# Altium integrated library NXP Semiconductors Standard MOSFETs.IntLib: 477 symbols (part 12 of 14)
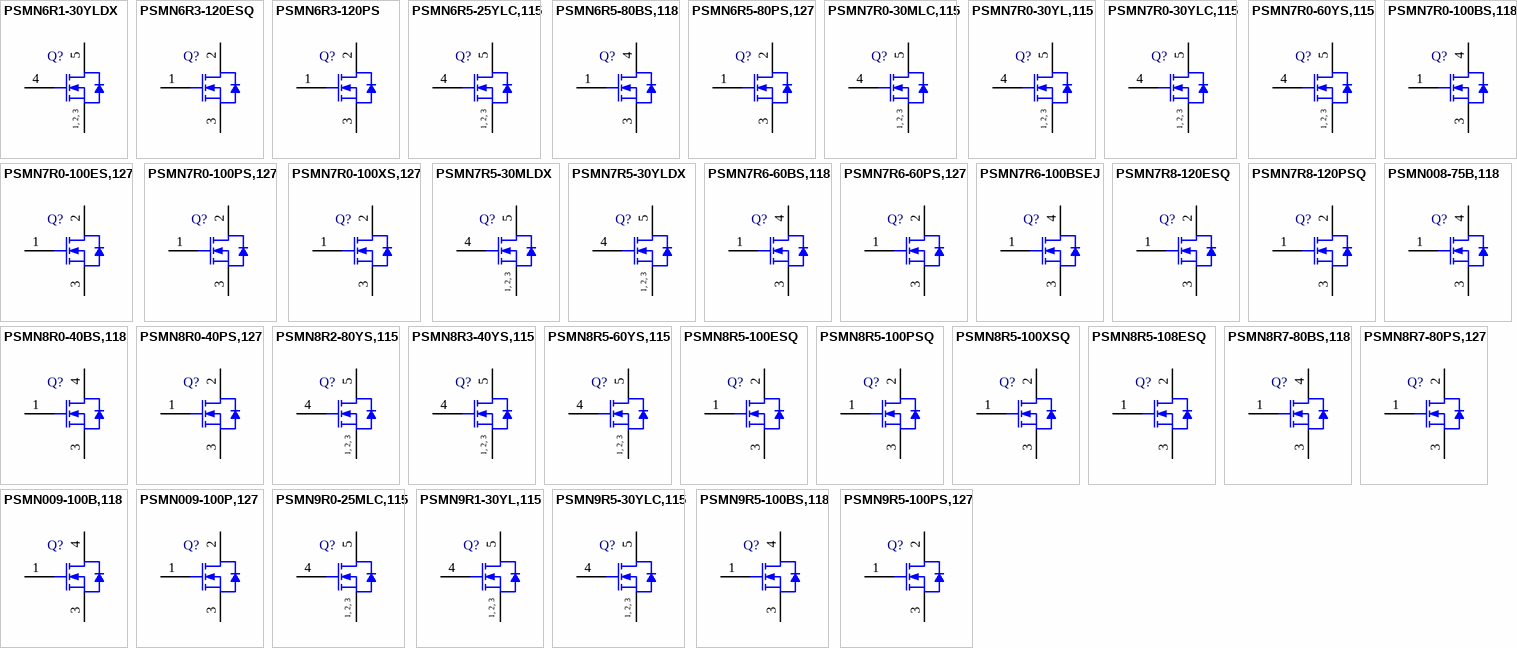
[diagram p23: symbols PSMN6R1-30YLDX to PSMN9R5-100PS,127]

## PSMN7R0-100BS,118
designator Q?
N-Channel Standard Level MOSFET, 100 V, 100 A, 3-Pin SOT404, Tape and Reel; Manufacturer: NXP Semiconductors; PartNumber: PSMN7R0-100BS,118; Channel Type: N; Ciss [typ] (pF): 6686; Coss [typ] (pF): 438; ID [max] (A): 100; Packing: Tape & Reel; Qr [typ] (nC): 167; VGSth [typ] (V): 3; DatasheetVersion: Rev. 2; PackageVersion: 13-02-25, 02/2013; PackageReference: SOT404; PackageDescription: 3-Pin Plastic Single-ended Surface Mounted Package, Body 10 x 9.6 mm, Pitch 2.54 mm; Supplier 1: Digi-Key; Supplier Part Number 1: 568-9705-2-ND; Supplier 2: Digi-Key; Supplier Part Number 2: 568-9705-1-ND; Supplier 3: Digi-Key; Supplier Part Number 3: 568-9705-6-ND; Supplier 4: Mouser; Supplier Part Number 4: 771-PSMN7R0-100BS118; VDS [max] (V): 100; Mounting Technology: Surface Mount; ComponentLink1Description: Manufacturer URL; ComponentLink1URL: http://www.nxp.com/; ComponentLink2Description: Datasheet; ComponentLink2URL: http://www.nxp.com/documents/data_sheet/PSMN7R0-100BS.pdf; ComponentLink3Description: Package Specification; ComponentLink3URL: http://www.nxp.com/documents/outline_drawing/sot404_po.pdf
footprint NXP-SOT404_N (DPAK, 3-Leads, Body 10.3x9.8mm, Pitch 2.54mm, IPC Medium Density)
footprint NXP-SOT404_L (DPAK, 3-Leads, Body 10.3x9.8mm, Pitch 2.54mm, IPC High Density)
footprint NXP-SOT404_M (DPAK, 3-Leads, Body 10.3x9.8mm, Pitch 2.54mm, IPC Low Density)
pins: 1 G "gate", 3 S "source", 4 D "mounting base; connected to drain"

## PSMN7R0-100ES,127
designator Q?
N-Channel Standard Level MOSFET, 100 V, 100 A, 3-Pin SOT226, Rail; Manufacturer: NXP Semiconductors; PartNumber: PSMN7R0-100ES,127; Channel Type: N; Ciss [typ] (pF): 6686; Coss [typ] (pF): 438; ID [max] (A): 100; Qr [typ] (nC): 167; VGSth [typ] (V): 3; DatasheetVersion: Rev. 03; PackageVersion: 09-08-25, 08/2009; PackageReference: SOT226; PackageDescription: 3-Pin Flange Mount, Vertical Straight Lead, Body 10 x 4.3 mm, Pitch 2.54 mm; Supplier 1: Digi-Key; Supplier Part Number 1: 568-7516-5-ND; Supplier 2: Mouser; Supplier Part Number 2: 771-PSMN7R0-100ES127; Packing: Rail; VDS [max] (V): 100; Mounting Technology: Through Hole; Code_JEDEC: TO-262; ComponentLink1Description: Manufacturer URL; ComponentLink1URL: http://www.nxp.com/; ComponentLink2Description: Datasheet; ComponentLink2URL: http://www.nxp.com/documents/data_sheet/PSMN7R0-100ES.pdf; ComponentLink3Description: Package Specification; ComponentLink3URL: http://www.nxp.com/documents/outline_drawing/sot226_po.pdf
footprint NXP-SOT226 (FM, 3-Leads, Body 10.3x4.5mm, Pitch 2.54mm)
pins: 1 G "gate", 2 D "drain", 3 S "source"

## PSMN7R0-100PS,127
designator Q?
N-Channel Standard Level MOSFET, 100 V, 100 A, 3-Pin SOT78, Tube; Manufacturer: NXP Semiconductors; PartNumber: PSMN7R0-100PS,127; Channel Type: N; Ciss [typ] (pF): 6686; Coss [typ] (pF): 438; ID [max] (A): 100; Qr [typ] (nC): 167; VGSth [typ] (V): 3; PackageVersion: 08-06-13, 06/2008; PackageReference: SOT78; PackageDescription: 3-Pin Flange Mount, Vertical Straight Lead, Body 10 x 4.4 mm, Pitch 2.54 mm; Supplier 1: Digi-Key; Supplier Part Number 1: 568-4971-5-ND; Supplier 2: Mouser; Supplier Part Number 2: 771-PSMN7R0-100PS127; Packing: Tube; VDS [max] (V): 100; Mounting Technology: Through Hole; Code_JEITA: SC-46; Code_JEDEC: 3-lead TO-220AB; ComponentLink1Description: Manufacturer URL; ComponentLink1URL: http://www.nxp.com/; ComponentLink2Description: Datasheet; ComponentLink2URL: http://www.nxp.com/documents/data_sheet/PSMN7R0-100PS.pdf; ComponentLink3Description: Package Specification; ComponentLink3URL: http://www.nxp.com/documents/outline_drawing/sot078_po.pdf
footprint NXP-SOT78 (FM, 3-Leads, Body 10.3x4.7mm, Pitch 2.54mm)
pins: 1 G "gate", 2 D "drain", 3 S "source"

## PSMN7R0-100XS,127
designator Q?
N-Channel Standard Level MOSFET, 100 V, 55 A, 3-Pin SOT186A, Rail; Manufacturer: NXP Semiconductors; PartNumber: PSMN7R0-100XS,127; Channel Type: N; Ciss [typ] (pF): 6686; Coss [typ] (pF): 438; ID [max] (A): 55; Qr [typ] (nC): 167; VDS [max] (V): 100; VGSth [typ] (V): 3; DatasheetVersion: Rev. 3; PackageVersion: 06-02-14, 02/2006; PackageReference: SOT186A; PackageDescription: 3-Pin Flange Mount, Vertical Straight Lead, Body 10 x 4.3 mm, Pitch 2.54 mm; Supplier 1: Digi-Key; Supplier Part Number 1: 568-9497-5-ND; Supplier 2: Mouser; Supplier Part Number 2: 771-PSMN7R0-100XS127; Packing: Rail; Mounting Technology: Through Hole; Code_JEDEC: 3-lead TO-220F; ComponentLink1Description: Manufacturer URL; ComponentLink1URL: http://www.nxp.com/; ComponentLink2Description: Datasheet; ComponentLink2URL: http://www.nxp.com/documents/data_sheet/PSMN7R0-100XS.pdf; ComponentLink3Description: Package Specification; ComponentLink3URL: http://www.nxp.com/documents/outline_drawing/sot186a_po.pdf
footprint NXP-SOT186A (FM, 3-Leads, Body 10.3x4.6mm, Pitch 2.54mm)
pins: 1 G "gate", 2 D "drain", 3 S "source"

## PSMN7R5-30MLDX
designator Q?
N-Channel Logic Level MOSFET Using NextPowerS3 Technology, 30 V, 57 A, 5-Pin SOT1210, Reel; Manufacturer: NXP Semiconductors; PartNumber: PSMN7R5-30MLDX; Channel Type: N; Ciss [typ] (pF): 655; Coss [typ] (pF): 578; ID [max] (A): 57; Qr [typ] (nC): 11; VDS [max] (V): 30; VGSth [typ] (V): 1.7; PackageVersion: 14-04-25, 04/2014; PackageReference: SOT1210; PackageDescription: 8-Pin Plastic Single-ended Surface Mounted Package, Body 3.3 x 2.6 mm, Pitch 0.65 mm; Supplier 1: Digi-Key; Supplier Part Number 1: 568-11377-2-ND; Supplier 2: Digi-Key; Supplier Part Number 2: 568-11377-1-ND; Supplier 3: Digi-Key; Supplier Part Number 3: 568-11377-6-ND; Supplier 4: Newark; Supplier Part Number 4: 27X7569; Supplier 5: Mouser; Supplier Part Number 5: 771-PSMN7R5-30MLDX; Packing: Reel; Mounting Technology: Surface Mount; ComponentLink1Description: Manufacturer URL; ComponentLink1URL: http://www.nxp.com/; ComponentLink2Description: Datasheet; ComponentLink2URL: http://www.nxp.com/documents/data_sheet/PSMN7R5-30MLD.pdf; ComponentLink3Description: Package Specification; ComponentLink3URL: http://www.nxp.com/documents/outline_drawing/sot1210_po.pdf
footprint NXP-SOT1210_N (DPAK, 5-Leads, Body 3.4x2.7mm, Pitch 0.65mm, IPC Medium Density)
footprint NXP-SOT1210_L (DPAK, 5-Leads, Body 3.4x2.7mm, Pitch 0.65mm, IPC High Density)
footprint NXP-SOT1210_M (DPAK, 5-Leads, Body 3.4x2.7mm, Pitch 0.65mm, IPC Low Density)
pins: 1 S "source", 2 S "source", 3 S "source", 4 G "gate", 5 D "mounting base; connected to drain"
text: 1, 2, 3

## PSMN7R5-30YLDX
designator Q?
N-Channel Logic Level MOSFET Using NextPowerS3 Technology, 30 V, 51 A, 5-Pin SOT669, Tape and Reel; Manufacturer: NXP Semiconductors; PartNumber: PSMN7R5-30YLDX; Channel Type: N; Ciss [typ] (pF): 655; Coss [typ] (pF): 578; ID [max] (A): 51; Packing: Tape & Reel; Qr [typ] (nC): 11; VDS [max] (V): 30; VGSth [typ] (V): 1.7; PackageVersion: 13-02-27, 02/2013; PackageReference: SOT669; PackageDescription: 4-Pin Plastic Single-ended Surface Mounted Package, Body 4.9 x 3.95 mm, Pitch 1.27 mm; Supplier 1: Digi-Key; Supplier Part Number 1: 568-11378-2-ND; Supplier 2: Digi-Key; Supplier Part Number 2: 568-11378-1-ND; Supplier 3: Digi-Key; Supplier Part Number 3: 568-11378-6-ND; Supplier 4: Newark; Supplier Part Number 4: 27X7570; Supplier 5: Mouser; Supplier Part Number 5: 771-PSMN7R5-30YLDX; Mounting Technology: Surface Mount; Code_JEDEC: MO-235; ComponentLink1Description: Manufacturer URL; ComponentLink1URL: http://www.nxp.com/; ComponentLink2Description: Datasheet; ComponentLink2URL: http://www.nxp.com/documents/data_sheet/PSMN7R5-30YLD.pdf; ComponentLink3Description: Package Specification; ComponentLink3URL: http://www.nxp.com/documents/outline_drawing/sot669_po.pdf
footprint NXP-SOT669_N (DPAK, 4-Leads, Body 5x4.1mm, Pitch 1.27mm, IPC Medium Density)
footprint NXP-SOT669_L (DPAK, 4-Leads, Body 5x4.1mm, Pitch 1.27mm, IPC High Density)
footprint NXP-SOT669_M (DPAK, 4-Leads, Body 5x4.1mm, Pitch 1.27mm, IPC Low Density)
pins: 1 S "source", 2 S "source", 3 S "source", 4 G "gate", 5 D "mounting base; connected to drain"
text: 1, 2, 3

## PSMN7R6-60BS,118
designator Q?
N-Channel Standard Level MOSFET, 60 V, 92 A, 3-Pin SOT404, Tape and Reel; Manufacturer: NXP Semiconductors; PartNumber: PSMN7R6-60BS,118; Channel Type: N; Ciss [typ] (pF): 2651; Coss [typ] (pF): 342; ID [max] (A): 92; Packing: Tape & Reel; Qr [typ] (nC): 56; VDS [max] (V): 60; VGSth [typ] (V): 3; DatasheetVersion: Rev. 2; PackageVersion: 13-02-25, 02/2013; PackageReference: SOT404; PackageDescription: 3-Pin Plastic Single-ended Surface Mounted Package, Body 10 x 9.6 mm, Pitch 2.54 mm; Supplier 1: Digi-Key; Supplier Part Number 1: 568-9706-2-ND; Supplier 2: Digi-Key; Supplier Part Number 2: 568-9706-1-ND; Supplier 3: Digi-Key; Supplier Part Number 3: 568-9706-6-ND; Supplier 4: Mouser; Supplier Part Number 4: 771-PSMN7R6-60BS,118; Mounting Technology: Surface Mount; ComponentLink1Description: Manufacturer URL; ComponentLink1URL: http://www.nxp.com/; ComponentLink2Description: Datasheet; ComponentLink2URL: http://www.nxp.com/documents/data_sheet/PSMN7R6-60BS.pdf; ComponentLink3Description: Package Specification; ComponentLink3URL: http://www.nxp.com/documents/outline_drawing/sot404_po.pdf
footprint NXP-SOT404_N (DPAK, 3-Leads, Body 10.3x9.8mm, Pitch 2.54mm, IPC Medium Density)
footprint NXP-SOT404_L (DPAK, 3-Leads, Body 10.3x9.8mm, Pitch 2.54mm, IPC High Density)
footprint NXP-SOT404_M (DPAK, 3-Leads, Body 10.3x9.8mm, Pitch 2.54mm, IPC Low Density)
pins: 1 G "gate", 3 S "source", 4 D "mounting base; connected to drain"

## PSMN7R6-60PS,127
designator Q?
N-Channel Standard Level MOSFET, 60 V, 92 A, 3-Pin SOT78, Tube; Manufacturer: NXP Semiconductors; PartNumber: PSMN7R6-60PS,127; Channel Type: N; Ciss [typ] (pF): 2651; Coss [typ] (pF): 342; ID [max] (A): 92; Qr [typ] (nC): 56; VDS [max] (V): 60; VGSth [typ] (V): 3; DatasheetVersion: Rev. 03; PackageVersion: 08-06-13, 06/2008; PackageReference: SOT78; PackageDescription: 3-Pin Flange Mount, Vertical Straight Lead, Body 10 x 4.4 mm, Pitch 2.54 mm; Supplier 1: Digi-Key; Supplier Part Number 1: 568-4970-5-ND; Supplier 2: Newark; Supplier Part Number 2: 72R6297; Supplier 3: Mouser; Supplier Part Number 3: 771-PSMN7R6-60PS-127; Packing: Tube; Mounting Technology: Through Hole; Code_JEITA: SC-46; Code_JEDEC: 3-lead TO-220AB; ComponentLink1Description: Manufacturer URL; ComponentLink1URL: http://www.nxp.com/; ComponentLink2Description: Datasheet; ComponentLink2URL: http://www.nxp.com/documents/data_sheet/PSMN7R6-60PS.pdf; ComponentLink3Description: Package Specification; ComponentLink3URL: http://www.nxp.com/documents/outline_drawing/sot078_po.pdf
footprint NXP-SOT78 (FM, 3-Leads, Body 10.3x4.7mm, Pitch 2.54mm)
pins: 1 G "gate", 2 D "drain", 3 S "source"

## PSMN7R6-100BSEJ
designator Q?
N-Channel Standard Level MOSFET, 100 V, 75 A, 3-Pin SOT404, Tape and Reel; Manufacturer: NXP Semiconductors; PartNumber: PSMN7R6-100BSEJ; Channel Type: N; Ciss [typ] (pF): 7110; Coss [typ] (pF): 450; ID [max] (A): 75; Packing: Tape & Reel; Qr [typ] (nC): 210; VDS [max] (V): 100; VGSth [typ] (V): 3; PackageVersion: 13-02-25, 02/2013; PackageReference: SOT404; PackageDescription: 3-Pin Plastic Single-ended Surface Mounted Package, Body 10 x 9.6 mm, Pitch 2.54 mm; Supplier 1: Digi-Key; Supplier Part Number 1: 568-10259-2-ND; Supplier 2: Digi-Key; Supplier Part Number 2: 568-10259-1-ND; Supplier 3: Digi-Key; Supplier Part Number 3: 568-10259-6-ND; Supplier 4: Newark; Supplier Part Number 4: 55W7094; Supplier 5: Mouser; Supplier Part Number 5: 771-PSMN7R6-100BSEJ; Mounting Technology: Surface Mount; ComponentLink1Description: Manufacturer URL; ComponentLink1URL: http://www.nxp.com/; ComponentLink2Description: Datasheet; ComponentLink2URL: http://www.nxp.com/documents/data_sheet/PSMN7R6-100BSE.pdf; ComponentLink3Description: Package Specification; ComponentLink3URL: http://www.nxp.com/documents/outline_drawing/sot404_po.pdf
footprint NXP-SOT404_N (DPAK, 3-Leads, Body 10.3x9.8mm, Pitch 2.54mm, IPC Medium Density)
footprint NXP-SOT404_L (DPAK, 3-Leads, Body 10.3x9.8mm, Pitch 2.54mm, IPC High Density)
footprint NXP-SOT404_M (DPAK, 3-Leads, Body 10.3x9.8mm, Pitch 2.54mm, IPC Low Density)
pins: 1 G "gate", 3 S "source", 4 D "mounting base; connected to drain"

## PSMN7R8-120ESQ
designator Q?
N-Channel Standard Level MOSFET, 120 V, 70 A, 3-Pin SOT226, Rail; Manufacturer: NXP Semiconductors; PartNumber: PSMN7R8-120ESQ; Channel Type: N; Ciss [typ] (pF): 9473; Coss [typ] (pF): 441; ID [max] (A): 70; Qr [typ] (nC): 264; VDS [max] (V): 120; VGSth [typ] (V): 3; PackageVersion: 09-08-25, 08/2009; PackageReference: SOT226; PackageDescription: 3-Pin Flange Mount, Vertical Straight Lead, Body 10 x 4.3 mm, Pitch 2.54 mm; Supplier 1: Digi-Key; Supplier Part Number 1: 568-10989-5-ND; Supplier 2: Mouser; Supplier Part Number 2: 771-PSMN7R8-120ESQ; Packing: Rail; Mounting Technology: Through Hole; Code_JEDEC: TO-262; ComponentLink1Description: Manufacturer URL; ComponentLink1URL: http://www.nxp.com/; ComponentLink2Description: Datasheet; ComponentLink2URL: http://www.nxp.com/documents/data_sheet/PSMN7R8-120ES.pdf; ComponentLink3Description: Package Specification; ComponentLink3URL: http://www.nxp.com/documents/outline_drawing/sot226_po.pdf
footprint NXP-SOT226 (FM, 3-Leads, Body 10.3x4.5mm, Pitch 2.54mm)
pins: 1 G "gate", 2 D "drain", 3 S "source"

## PSMN7R8-120PSQ
designator Q?
N-Channel Standard Level MOSFET, 120 V, 70 A, 3-Pin SOT78, Tube; Manufacturer: NXP Semiconductors; PartNumber: PSMN7R8-120PSQ; Channel Type: N; Ciss [typ] (pF): 9473; Coss [typ] (pF): 441; ID [max] (A): 70; Qr [typ] (nC): 264; VDS [max] (V): 120; VGSth [typ] (V): 3; PackageVersion: 08-06-13, 06/2008; PackageReference: SOT78; PackageDescription: 3-Pin Flange Mount, Vertical Straight Lead, Body 10 x 4.4 mm, Pitch 2.54 mm; Supplier 1: Digi-Key; Supplier Part Number 1: 568-11431-5-ND; Supplier 2: Mouser; Supplier Part Number 2: 771-PSMN7R8-120PSQ; Packing: Tube; Mounting Technology: Through Hole; Code_JEITA: SC-46; Code_JEDEC: 3-lead TO-220AB; ComponentLink1Description: Manufacturer URL; ComponentLink1URL: http://www.nxp.com/; ComponentLink2Description: Datasheet; ComponentLink2URL: http://www.nxp.com/documents/data_sheet/PSMN7R8-120PS.pdf; ComponentLink3Description: Package Specification; ComponentLink3URL: http://www.nxp.com/documents/outline_drawing/sot078_po.pdf
footprint NXP-SOT78 (FM, 3-Leads, Body 10.3x4.7mm, Pitch 2.54mm)
pins: 1 G "gate", 2 D "drain", 3 S "source"

## PSMN008-75B,118
designator Q?
N-Channel TrenchMOS SiliconMAX Standard Level FET, 75 V, 75 A, 3-Pin SOT404, Tape and Reel; Manufacturer: NXP Semiconductors; PartNumber: PSMN008-75B,118; Channel Type: N; Ciss [typ] (pF): 5260; Coss [typ] (pF): 525; ID [max] (A): 75; Packing: Tape & Reel; Qr [typ] (nC): 100; VGSth [typ] (V): 3; DatasheetVersion: Rev. 04; PackageVersion: 13-02-25, 02/2013; PackageReference: SOT404; PackageDescription: 3-Pin Plastic Single-ended Surface Mounted Package, Body 10 x 9.6 mm, Pitch 2.54 mm; Supplier 1: Digi-Key; Supplier Part Number 1: 568-5948-2-ND; Supplier 2: Digi-Key; Supplier Part Number 2: 568-5948-1-ND; Supplier 3: Digi-Key; Supplier Part Number 3: 568-5948-6-ND; Supplier 4: Mouser; Supplier Part Number 4: 771-PSMN008-75B118; VDS [max] (V): 75; Mounting Technology: Surface Mount; ComponentLink1Description: Manufacturer URL; ComponentLink1URL: http://www.nxp.com/; ComponentLink2Description: Datasheet; ComponentLink2URL: http://www.nxp.com/documents/data_sheet/PSMN008-75B.pdf; ComponentLink3Description: Package Specification; ComponentLink3URL: http://www.nxp.com/documents/outline_drawing/sot404_po.pdf
footprint NXP-SOT404_N (DPAK, 3-Leads, Body 10.3x9.8mm, Pitch 2.54mm, IPC Medium Density)
footprint NXP-SOT404_L (DPAK, 3-Leads, Body 10.3x9.8mm, Pitch 2.54mm, IPC High Density)
footprint NXP-SOT404_M (DPAK, 3-Leads, Body 10.3x9.8mm, Pitch 2.54mm, IPC Low Density)
pins: 1 G "gate", 3 S "source", 4 D "mounting base; connected to drain"

## PSMN8R0-40BS,118
designator Q?
N-Channel Standard Level MOSFET, 40 V, 77 A, 3-Pin SOT404, Tape and Reel; Manufacturer: NXP Semiconductors; PartNumber: PSMN8R0-40BS,118; Channel Type: N; Ciss [typ] (pF): 1262; Coss [typ] (pF): 327; ID [max] (A): 77; Packing: Tape & Reel; Qr [typ] (nC): 18; VDS [max] (V): 40; VGSth [typ] (V): 3; DatasheetVersion: Rev. 2; PackageVersion: 13-02-25, 02/2013; PackageReference: SOT404; PackageDescription: 3-Pin Plastic Single-ended Surface Mounted Package, Body 10 x 9.6 mm, Pitch 2.54 mm; Supplier 1: Digi-Key; Supplier Part Number 1: 568-9707-2-ND; Supplier 2: Digi-Key; Supplier Part Number 2: 568-9707-1-ND; Supplier 3: Digi-Key; Supplier Part Number 3: 568-9707-6-ND; Supplier 4: Mouser; Supplier Part Number 4: 771-PSMN8R0-40BS,118; Mounting Technology: Surface Mount; ComponentLink1Description: Manufacturer URL; ComponentLink1URL: http://www.nxp.com/; ComponentLink2Description: Datasheet; ComponentLink2URL: http://www.nxp.com/documents/data_sheet/PSMN8R0-40BS.pdf; ComponentLink3Description: Package Specification; ComponentLink3URL: http://www.nxp.com/documents/outline_drawing/sot404_po.pdf
footprint NXP-SOT404_N (DPAK, 3-Leads, Body 10.3x9.8mm, Pitch 2.54mm, IPC Medium Density)
footprint NXP-SOT404_L (DPAK, 3-Leads, Body 10.3x9.8mm, Pitch 2.54mm, IPC High Density)
footprint NXP-SOT404_M (DPAK, 3-Leads, Body 10.3x9.8mm, Pitch 2.54mm, IPC Low Density)
pins: 1 G "gate", 3 S "source", 4 D "mounting base; connected to drain"

## PSMN8R0-40PS,127
designator Q?
N-Channel Standard Level MOSFET, 40 V, 77 A, 3-Pin SOT78, Tube; Manufacturer: NXP Semiconductors; PartNumber: PSMN8R0-40PS,127; Channel Type: N; Ciss [typ] (pF): 1262; Coss [typ] (pF): 327; ID [max] (A): 77; Qr [typ] (nC): 18; VDS [max] (V): 40; VGSth [typ] (V): 3; DatasheetVersion: Rev. 02; PackageVersion: 08-06-13, 06/2008; PackageReference: SOT78; PackageDescription: 3-Pin Flange Mount, Vertical Straight Lead, Body 10 x 4.4 mm, Pitch 2.54 mm; Supplier 1: Digi-Key; Supplier Part Number 1: 568-4893-5-ND; Supplier 2: Newark; Supplier Part Number 2: 70R7976; Supplier 3: Mouser; Supplier Part Number 3: 771-PSMN8R0-40PS,127; Packing: Tube; Mounting Technology: Through Hole; Code_JEITA: SC-46; Code_JEDEC: 3-lead TO-220AB; ComponentLink1Description: Manufacturer URL; ComponentLink1URL: http://www.nxp.com/; ComponentLink2Description: Datasheet; ComponentLink2URL: http://www.nxp.com/documents/data_sheet/PSMN8R0-40PS.pdf; ComponentLink3Description: Package Specification; ComponentLink3URL: http://www.nxp.com/documents/outline_drawing/sot078_po.pdf
footprint NXP-SOT78 (FM, 3-Leads, Body 10.3x4.7mm, Pitch 2.54mm)
pins: 1 G "gate", 2 D "drain", 3 S "source"

## PSMN8R2-80YS,115
designator Q?
N-Channel Standard Level MOSFET, 80 V, 82 A, 5-Pin SOT669, Tape and Reel; Manufacturer: NXP Semiconductors; PartNumber: PSMN8R2-80YS,115; Channel Type: N; Ciss [typ] (pF): 3640; Coss [typ] (pF): 390; ID [max] (A): 82; Packing: Tape & Reel; Qr [typ] (nC): 106; VDS [max] (V): 80; VGSth [typ] (V): 3; DatasheetVersion: Rev. 01; PackageVersion: 13-02-27, 02/2013; PackageReference: SOT669; PackageDescription: 4-Pin Plastic Single-ended Surface Mounted Package, Body 4.9 x 3.95 mm, Pitch 1.27 mm; Supplier 1: Digi-Key; Supplier Part Number 1: 568-4904-2-ND; Supplier 2: Digi-Key; Supplier Part Number 2: 568-4904-1-ND; Supplier 3: Digi-Key; Supplier Part Number 3: 568-4904-6-ND; Supplier 4: Newark; Supplier Part Number 4: 79R2071; Supplier 5: Mouser; Supplier Part Number 5: 771-PSMN8R2-80YS,115; Mounting Technology: Surface Mount; Code_JEDEC: MO-235; ComponentLink1Description: Manufacturer URL; ComponentLink1URL: http://www.nxp.com/; ComponentLink2Description: Datasheet; ComponentLink2URL: http://www.nxp.com/documents/data_sheet/PSMN8R2-80YS.pdf; ComponentLink3Description: Package Specification; ComponentLink3URL: http://www.nxp.com/documents/outline_drawing/sot669_po.pdf
footprint NXP-SOT669_N (DPAK, 4-Leads, Body 5x4.1mm, Pitch 1.27mm, IPC Medium Density)
footprint NXP-SOT669_L (DPAK, 4-Leads, Body 5x4.1mm, Pitch 1.27mm, IPC High Density)
footprint NXP-SOT669_M (DPAK, 4-Leads, Body 5x4.1mm, Pitch 1.27mm, IPC Low Density)
pins: 1 S "source", 2 S "source", 3 S "source", 4 G "gate", 5 D "mounting base; connected to drain"
text: 1, 2, 3

## PSMN8R3-40YS,115
designator Q?
N-Channel Standard Level MOSFET, 40 V, 70 A, 5-Pin SOT669, Tape and Reel; Manufacturer: NXP Semiconductors; PartNumber: PSMN8R3-40YS,115; Channel Type: N; Ciss [typ] (pF): 1215; Coss [typ] (pF): 270; ID [max] (A): 70; Packing: Tape & Reel; Qr [typ] (nC): 26; VDS [max] (V): 40; VGSth [typ] (V): 3; DatasheetVersion: Rev. 01; PackageVersion: 13-02-27, 02/2013; PackageReference: SOT669; PackageDescription: 4-Pin Plastic Single-ended Surface Mounted Package, Body 4.9 x 3.95 mm, Pitch 1.27 mm; Supplier 1: Digi-Key; Supplier Part Number 1: 568-4903-2-ND; Supplier 2: Digi-Key; Supplier Part Number 2: 568-4903-1-ND; Supplier 3: Digi-Key; Supplier Part Number 3: 568-4903-6-ND; Supplier 4: Newark; Supplier Part Number 4: 79R2072; Supplier 5: Mouser; Supplier Part Number 5: 771-PSMN8R3-40YS,115; Mounting Technology: Surface Mount; Code_JEDEC: MO-235; ComponentLink1Description: Manufacturer URL; ComponentLink1URL: http://www.nxp.com/; ComponentLink2Description: Datasheet; ComponentLink2URL: http://www.nxp.com/documents/data_sheet/PSMN8R3-40YS.pdf; ComponentLink3Description: Package Specification; ComponentLink3URL: http://www.nxp.com/documents/outline_drawing/sot669_po.pdf
footprint NXP-SOT669_N (DPAK, 4-Leads, Body 5x4.1mm, Pitch 1.27mm, IPC Medium Density)
footprint NXP-SOT669_L (DPAK, 4-Leads, Body 5x4.1mm, Pitch 1.27mm, IPC High Density)
footprint NXP-SOT669_M (DPAK, 4-Leads, Body 5x4.1mm, Pitch 1.27mm, IPC Low Density)
pins: 1 S "source", 2 S "source", 3 S "source", 4 G "gate", 5 D "mounting base; connected to drain"
text: 1, 2, 3

## PSMN8R5-60YS,115
designator Q?
N-Channel Standard Level MOSFET, 60 V, 76 A, 5-Pin SOT669, Tape and Reel; Manufacturer: NXP Semiconductors; PartNumber: PSMN8R5-60YS,115; Channel Type: N; Ciss [typ] (pF): 2370; Coss [typ] (pF): 307; ID [max] (A): 76; Packing: Tape & Reel; Qr [typ] (nC): 61.4; VDS [max] (V): 60; VGSth [typ] (V): 3; DatasheetVersion: Rev. 01; PackageVersion: 13-02-27, 02/2013; PackageReference: SOT669; PackageDescription: 4-Pin Plastic Single-ended Surface Mounted Package, Body 4.9 x 3.95 mm, Pitch 1.27 mm; Supplier 1: Digi-Key; Supplier Part Number 1: 568-4969-2-ND; Supplier 2: Digi-Key; Supplier Part Number 2: 568-4969-1-ND; Supplier 3: Digi-Key; Supplier Part Number 3: 568-4969-6-ND; Supplier 4: Newark; Supplier Part Number 4: 79R2073; Supplier 5: Newark; Supplier Part Number 5: 72R6298; Supplier 6: Mouser; Supplier Part Number 6: 771-PSMN8R5-60YS-115; Mounting Technology: Surface Mount; Code_JEDEC: MO-235; ComponentLink1Description: Manufacturer URL; ComponentLink1URL: http://www.nxp.com/; ComponentLink2Description: Datasheet; ComponentLink2URL: http://www.nxp.com/documents/data_sheet/PSMN8R5-60YS.pdf; ComponentLink3Description: Package Specification; ComponentLink3URL: http://www.nxp.com/documents/outline_drawing/sot669_po.pdf
footprint NXP-SOT669_N (DPAK, 4-Leads, Body 5x4.1mm, Pitch 1.27mm, IPC Medium Density)
footprint NXP-SOT669_L (DPAK, 4-Leads, Body 5x4.1mm, Pitch 1.27mm, IPC High Density)
footprint NXP-SOT669_M (DPAK, 4-Leads, Body 5x4.1mm, Pitch 1.27mm, IPC Low Density)
pins: 1 S "source", 2 S "source", 3 S "source", 4 G "gate", 5 D "mounting base; connected to drain"
text: 1, 2, 3

## PSMN8R5-100ESQ
designator Q?
N-Channel Standard Level MOSFET, 100 V, 100 A, 3-Pin SOT226, Rail; Manufacturer: NXP Semiconductors; PartNumber: PSMN8R5-100ESQ; Channel Type: N; Ciss [typ] (pF): 5512; Coss [typ] (pF): 380; ID [max] (A): 100; Qr [typ] (nC): 124; VGSth [typ] (V): 3; PackageVersion: 09-08-25, 08/2009; PackageReference: SOT226; PackageDescription: 3-Pin Flange Mount, Vertical Straight Lead, Body 10 x 4.3 mm, Pitch 2.54 mm; Supplier 1: Digi-Key; Supplier Part Number 1: 568-10161-5-ND; Supplier 2: Mouser; Supplier Part Number 2: 771-PSMN8R5-100ESQ; Packing: Rail; VDS [max] (V): 100; Mounting Technology: Through Hole; Code_JEDEC: TO-262; ComponentLink1Description: Manufacturer URL; ComponentLink1URL: http://www.nxp.com/; ComponentLink2Description: Datasheet; ComponentLink2URL: http://www.nxp.com/documents/data_sheet/PSMN8R5-100ES.pdf; ComponentLink3Description: Package Specification; ComponentLink3URL: http://www.nxp.com/documents/outline_drawing/sot226_po.pdf
footprint NXP-SOT226 (FM, 3-Leads, Body 10.3x4.5mm, Pitch 2.54mm)
pins: 1 G "gate", 2 D "drain", 3 S "source"

## PSMN8R5-100PSQ
designator Q?
N-Channel Standard Level MOSFET, 100 V, 100 A, 3-Pin SOT78, Tube; Manufacturer: NXP Semiconductors; PartNumber: PSMN8R5-100PSQ; Channel Type: N; Ciss [typ] (pF): 5512; Coss [typ] (pF): 380; ID [max] (A): 100; Qr [typ] (nC): 124; VGSth [typ] (V): 3; PackageVersion: 08-06-13, 06/2008; PackageReference: SOT78; PackageDescription: 3-Pin Flange Mount, Vertical Straight Lead, Body 10 x 4.4 mm, Pitch 2.54 mm; Supplier 1: Digi-Key; Supplier Part Number 1: 568-10160-5-ND; Supplier 2: Mouser; Supplier Part Number 2: 771-PSMN8R5-100PSQ; Packing: Tube; VDS [max] (V): 100; Mounting Technology: Through Hole; Code_JEITA: SC-46; Code_JEDEC: 3-lead TO-220AB; ComponentLink1Description: Manufacturer URL; ComponentLink1URL: http://www.nxp.com/; ComponentLink2Description: Datasheet; ComponentLink2URL: http://www.nxp.com/documents/data_sheet/PSMN8R5-100PS.pdf; ComponentLink3Description: Package Specification; ComponentLink3URL: http://www.nxp.com/documents/outline_drawing/sot078_po.pdf
footprint NXP-SOT78 (FM, 3-Leads, Body 10.3x4.7mm, Pitch 2.54mm)
pins: 1 G "gate", 2 D "drain", 3 S "source"

## PSMN8R5-100XSQ
designator Q?
N-Channel Standard Level MOSFET, 100 V, 49 A, 3-Pin SOT186A, Rail; Manufacturer: NXP Semiconductors; PartNumber: PSMN8R5-100XSQ; Channel Type: N; Ciss [typ] (pF): 5512; Coss [typ] (pF): 380; ID [max] (A): 49; Qr [typ] (nC): 124; VDS [max] (V): 100; VGSth [typ] (V): 3; PackageVersion: 06-02-14, 02/2006; PackageReference: SOT186A; PackageDescription: 3-Pin Flange Mount, Vertical Straight Lead, Body 10 x 4.3 mm, Pitch 2.54 mm; Supplier 1: Digi-Key; Supplier Part Number 1: 568-10162-5-ND; Supplier 2: Mouser; Supplier Part Number 2: 771-PSMN8R5-100XSQ; Packing: Rail; Mounting Technology: Through Hole; Code_JEDEC: 3-lead TO-220F; ComponentLink1Description: Manufacturer URL; ComponentLink1URL: http://www.nxp.com/; ComponentLink2Description: Datasheet; ComponentLink2URL: http://www.nxp.com/documents/data_sheet/PSMN8R5-100XS.PDF; ComponentLink3Description: Package Specification; ComponentLink3URL: http://www.nxp.com/documents/outline_drawing/sot186a_po.pdf
footprint NXP-SOT186A (FM, 3-Leads, Body 10.3x4.6mm, Pitch 2.54mm)
pins: 1 G "gate", 2 D "drain", 3 S "source"

## PSMN8R5-108ESQ
designator Q?
N-Channel Standard Level MOSFET, 108 V, 100 A, 3-Pin SOT226, Rail; Manufacturer: NXP Semiconductors; PartNumber: PSMN8R5-108ESQ; Channel Type: N; Ciss [typ] (pF): 5512; Coss [typ] (pF): 380; ID [max] (A): 100; Qr [typ] (nC): 124; VDS [max] (V): 108; VGSth [typ] (V): 3; PackageVersion: 09-08-25, 08/2009; PackageReference: SOT226; PackageDescription: 3-Pin Flange Mount, Vertical Straight Lead, Body 10 x 4.3 mm, Pitch 2.54 mm; Supplier 1: Digi-Key; Supplier Part Number 1: 568-11432-5-ND; Supplier 2: Newark; Supplier Part Number 2: 27X7571; Supplier 3: Mouser; Supplier Part Number 3: N/A; Packing: Rail; Mounting Technology: Through Hole; Code_JEDEC: TO-262; ComponentLink1Description: Manufacturer URL; ComponentLink1URL: http://www.nxp.com/; ComponentLink2Description: Datasheet; ComponentLink2URL: http://www.nxp.com/documents/data_sheet/PSMN1R0-40YLD.pdf; ComponentLink3Description: Package Specification; ComponentLink3URL: http://www.nxp.com/documents/outline_drawing/sot226_po.pdf
footprint NXP-SOT226 (FM, 3-Leads, Body 10.3x4.5mm, Pitch 2.54mm)
pins: 1 G "gate", 2 D "drain", 3 S "source"

## PSMN8R7-80BS,118
designator Q?
N-Channel Standard Level MOSFET, 80 V, 90 A, 3-Pin SOT404, Tape and Reel; Manufacturer: NXP Semiconductors; PartNumber: PSMN8R7-80BS,118; Channel Type: N; Ciss [typ] (pF): 3346; Coss [typ] (pF): 296; ID [max] (A): 90; Packing: Tape & Reel; Qr [typ] (nC): 66; VDS [max] (V): 80; VGSth [typ] (V): 3; DatasheetVersion: Rev. 2; PackageVersion: 13-02-25, 02/2013; PackageReference: SOT404; PackageDescription: 3-Pin Plastic Single-ended Surface Mounted Package, Body 10 x 9.6 mm, Pitch 2.54 mm; Supplier 1: Digi-Key; Supplier Part Number 1: 568-9708-2-ND; Supplier 2: Digi-Key; Supplier Part Number 2: 568-9708-1-ND; Supplier 3: Digi-Key; Supplier Part Number 3: 568-9708-6-ND; Supplier 4: Mouser; Supplier Part Number 4: 771-PSMN8R7-80BS,118; Mounting Technology: Surface Mount; ComponentLink1Description: Manufacturer URL; ComponentLink1URL: http://www.nxp.com/; ComponentLink2Description: Datasheet; ComponentLink2URL: http://www.nxp.com/documents/data_sheet/PSMN8R7-80BS.pdf; ComponentLink3Description: Package Specification; ComponentLink3URL: http://www.nxp.com/documents/outline_drawing/sot404_po.pdf
footprint NXP-SOT404_N (DPAK, 3-Leads, Body 10.3x9.8mm, Pitch 2.54mm, IPC Medium Density)
footprint NXP-SOT404_L (DPAK, 3-Leads, Body 10.3x9.8mm, Pitch 2.54mm, IPC High Density)
footprint NXP-SOT404_M (DPAK, 3-Leads, Body 10.3x9.8mm, Pitch 2.54mm, IPC Low Density)
pins: 1 G "gate", 3 S "source", 4 D "mounting base; connected to drain"

## PSMN8R7-80PS,127
designator Q?
N-Channel Standard Level MOSFET, 80 V, 90 A, 3-Pin SOT78, Tube; Manufacturer: NXP Semiconductors; PartNumber: PSMN8R7-80PS,127; Channel Type: N; Ciss [typ] (pF): 3346; Coss [typ] (pF): 296; ID [max] (A): 90; Qr [typ] (nC): 66; VDS [max] (V): 80; VGSth [typ] (V): 3; DatasheetVersion: Rev. 02; PackageVersion: 08-06-13, 06/2008; PackageReference: SOT78; PackageDescription: 3-Pin Flange Mount, Vertical Straight Lead, Body 10 x 4.4 mm, Pitch 2.54 mm; Supplier 1: Digi-Key; Supplier Part Number 1: 568-7517-5-ND; Supplier 2: Mouser; Supplier Part Number 2: 771-PSMN8R780PS127; Packing: Tube; Mounting Technology: Through Hole; Code_JEITA: SC-46; Code_JEDEC: 3-lead TO-220AB; ComponentLink1Description: Manufacturer URL; ComponentLink1URL: http://www.nxp.com/; ComponentLink2Description: Datasheet; ComponentLink2URL: http://www.nxp.com/documents/data_sheet/PSMN8R7-80PS.pdf; ComponentLink3Description: Package Specification; ComponentLink3URL: http://www.nxp.com/documents/outline_drawing/sot078_po.pdf
footprint NXP-SOT78 (FM, 3-Leads, Body 10.3x4.7mm, Pitch 2.54mm)
pins: 1 G "gate", 2 D "drain", 3 S "source"

## PSMN009-100B,118
designator Q?
N-Channel TrenchMOS SiliconMAX Standard Level FET, 100 V, 75 A, 3-Pin SOT404, Tape and Reel; Manufacturer: NXP Semiconductors; PartNumber: PSMN009-100B,118; Channel Type: N; Ciss [typ] (pF): 8250; Coss [typ] (pF): 620; ID [max] (A): 75; Packing: Tape & Reel; VDS [max] (V): 100; VGSth [typ] (V): 3; DatasheetVersion: Rev. 02; PackageVersion: 13-02-25, 02/2013; PackageReference: SOT404; PackageDescription: 3-Pin Plastic Single-ended Surface Mounted Package, Body 10 x 9.6 mm, Pitch 2.54 mm; Supplier 1: Digi-Key; Supplier Part Number 1: 568-6593-2-ND; Supplier 2: Digi-Key; Supplier Part Number 2: 568-6593-1-ND; Supplier 3: Digi-Key; Supplier Part Number 3: 568-6593-6-ND; Supplier 4: Mouser; Supplier Part Number 4: 771-PSMN009-100B118; Mounting Technology: Surface Mount; ComponentLink1Description: Manufacturer URL; ComponentLink1URL: http://www.nxp.com/; ComponentLink2Description: Datasheet; ComponentLink2URL: http://www.nxp.com/documents/data_sheet/PSMN009-100B.pdf; ComponentLink3Description: Package Specification; ComponentLink3URL: http://www.nxp.com/documents/outline_drawing/sot404_po.pdf
footprint NXP-SOT404_N (DPAK, 3-Leads, Body 10.3x9.8mm, Pitch 2.54mm, IPC Medium Density)
footprint NXP-SOT404_L (DPAK, 3-Leads, Body 10.3x9.8mm, Pitch 2.54mm, IPC High Density)
footprint NXP-SOT404_M (DPAK, 3-Leads, Body 10.3x9.8mm, Pitch 2.54mm, IPC Low Density)
pins: 1 G "gate", 3 S "source", 4 D "mounting base; connected to drain"

## PSMN009-100P,127
designator Q?
N-Channel TrenchMOS SiliconMAX Standard Level FET, 100 V, 75 A, 3-Pin SOT78, Tube; Manufacturer: NXP Semiconductors; PartNumber: PSMN009-100P,127; Channel Type: N; Ciss [typ] (pF): 8250; Coss [typ] (pF): 620; ID [max] (A): 75; VDS [max] (V): 100; VGSth [typ] (V): 3; DatasheetVersion: Rev. 4; PackageVersion: 08-06-13, 06/2008; PackageReference: SOT78; PackageDescription: 3-Pin Flange Mount, Vertical Straight Lead, Body 10 x 4.4 mm, Pitch 2.54 mm; Supplier 1: Digi-Key; Supplier Part Number 1: 568-5770-5-ND; Supplier 2: Newark; Supplier Part Number 2: 70R7928; Supplier 3: Mouser; Supplier Part Number 3: 771-PSMN009-100P127; Packing: Tube; Mounting Technology: Through Hole; Code_JEITA: SC-46; Code_JEDEC: 3-lead TO-220AB; ComponentLink1Description: Manufacturer URL; ComponentLink1URL: http://www.nxp.com/; ComponentLink2Description: Datasheet; ComponentLink2URL: http://www.nxp.com/documents/data_sheet/PSMN009-100P.pdf; ComponentLink3Description: Package Specification; ComponentLink3URL: http://www.nxp.com/documents/outline_drawing/sot078_po.pdf
footprint NXP-SOT78 (FM, 3-Leads, Body 10.3x4.7mm, Pitch 2.54mm)
pins: 1 G "gate", 2 D "drain", 3 S "source"

## PSMN9R0-25MLC,115
designator Q?
N-Channel Logic Level MOSFET Using NextPower Technology, 25 V, 55 A, 5-Pin SOT1210, Reel; Manufacturer: NXP Semiconductors; PartNumber: PSMN9R0-25MLC,115; Channel Type: N; Ciss [typ] (pF): 705; Coss [typ] (pF): 206; ID [max] (A): 55; Qr [typ] (nC): 7.5; VDS [max] (V): 25; VGSth [typ] (V): 1.5; DatasheetVersion: Rev. 3; PackageVersion: 14-04-25, 04/2014; PackageReference: SOT1210; PackageDescription: 8-Pin Plastic Single-ended Surface Mounted Package, Body 3.3 x 2.6 mm, Pitch 0.65 mm; Supplier 1: Digi-Key; Supplier Part Number 1: 568-9578-2-ND; Supplier 2: Digi-Key; Supplier Part Number 2: 568-9578-1-ND; Supplier 3: Digi-Key; Supplier Part Number 3: 568-9578-6-ND; Supplier 4: Mouser; Supplier Part Number 4: 771-PSMN9R0-25MLC115; Packing: Reel; Mounting Technology: Surface Mount; ComponentLink1Description: Manufacturer URL; ComponentLink1URL: http://www.nxp.com/; ComponentLink2Description: Datasheet; ComponentLink2URL: http://www.nxp.com/documents/data_sheet/PSMN9R0-25MLC.pdf; ComponentLink3Description: Package Specification; ComponentLink3URL: http://www.nxp.com/documents/outline_drawing/sot1210_po.pdf
footprint NXP-SOT1210_N (DPAK, 5-Leads, Body 3.4x2.7mm, Pitch 0.65mm, IPC Medium Density)
footprint NXP-SOT1210_L (DPAK, 5-Leads, Body 3.4x2.7mm, Pitch 0.65mm, IPC High Density)
footprint NXP-SOT1210_M (DPAK, 5-Leads, Body 3.4x2.7mm, Pitch 0.65mm, IPC Low Density)
pins: 1 S "source", 2 S "source", 3 S "source", 4 G "gate", 5 D "mounting base; connected to drain"
text: 1, 2, 3

## PSMN9R1-30YL,115
designator Q?
N-Channel TrenchMOS Logic Level FET, 30 V, 57 A, 5-Pin SOT669, Tape and Reel; Manufacturer: NXP Semiconductors; PartNumber: PSMN9R1-30YL,115; Channel Type: N; Ciss [typ] (pF): 894; Coss [typ] (pF): 182; ID [max] (A): 57; Packing: Tape & Reel; Qr [typ] (nC): 25; VDS [max] (V): 30; VGSth [typ] (V): 1.7; DatasheetVersion: Rev. 2; PackageVersion: 13-02-27, 02/2013; PackageReference: SOT669; PackageDescription: 4-Pin Plastic Single-ended Surface Mounted Package, Body 4.9 x 3.95 mm, Pitch 1.27 mm; Supplier 1: Digi-Key; Supplier Part Number 1: 568-6905-2-ND; Supplier 2: Digi-Key; Supplier Part Number 2: 568-6905-1-ND; Supplier 3: Digi-Key; Supplier Part Number 3: 568-6905-6-ND; Supplier 4: Mouser; Supplier Part Number 4: 771-PSMN9R1-30YL115; Mounting Technology: Surface Mount; Code_JEDEC: MO-235; ComponentLink1Description: Manufacturer URL; ComponentLink1URL: http://www.nxp.com/; ComponentLink2Description: Datasheet; ComponentLink2URL: http://www.nxp.com/documents/data_sheet/PSMN9R1-30YL.pdf; ComponentLink3Description: Package Specification; ComponentLink3URL: http://www.nxp.com/documents/outline_drawing/sot669_po.pdf
footprint NXP-SOT669_N (DPAK, 4-Leads, Body 5x4.1mm, Pitch 1.27mm, IPC Medium Density)
footprint NXP-SOT669_L (DPAK, 4-Leads, Body 5x4.1mm, Pitch 1.27mm, IPC High Density)
footprint NXP-SOT669_M (DPAK, 4-Leads, Body 5x4.1mm, Pitch 1.27mm, IPC Low Density)
pins: 1 S "source", 2 S "source", 3 S "source", 4 G "gate", 5 D "mounting base; connected to drain"
text: 1, 2, 3

## PSMN9R5-30YLC,115
designator Q?
N-Channel Logic Level MOSFET Using NextPower Technology, 30 V, 44 A, 5-Pin SOT669, Tape and Reel; Manufacturer: NXP Semiconductors; PartNumber: PSMN9R5-30YLC,115; Channel Type: N; Ciss [typ] (pF): 681; Coss [typ] (pF): 169; ID [max] (A): 44; Packing: Tape & Reel; Qr [typ] (nC): 18; VDS [max] (V): 30; VGSth [typ] (V): 1.66; DatasheetVersion: Rev. 2; PackageVersion: 13-02-27, 02/2013; PackageReference: SOT669; PackageDescription: 4-Pin Plastic Single-ended Surface Mounted Package, Body 4.9 x 3.95 mm, Pitch 1.27 mm; Supplier 1: Digi-Key; Supplier Part Number 1: 568-7593-2-ND; Supplier 2: Digi-Key; Supplier Part Number 2: 568-7593-1-ND; Supplier 3: Digi-Key; Supplier Part Number 3: 568-7593-6-ND; Supplier 4: Mouser; Supplier Part Number 4: 771-PSMN9R5-30YLC115; Mounting Technology: Surface Mount; Code_JEDEC: MO-235; ComponentLink1Description: Manufacturer URL; ComponentLink1URL: http://www.nxp.com/; ComponentLink2Description: Datasheet; ComponentLink2URL: http://www.nxp.com/documents/data_sheet/PSMN9R5-30YLC.pdf; ComponentLink3Description: Package Specification; ComponentLink3URL: http://www.nxp.com/documents/outline_drawing/sot669_po.pdf
footprint NXP-SOT669_N (DPAK, 4-Leads, Body 5x4.1mm, Pitch 1.27mm, IPC Medium Density)
footprint NXP-SOT669_L (DPAK, 4-Leads, Body 5x4.1mm, Pitch 1.27mm, IPC High Density)
footprint NXP-SOT669_M (DPAK, 4-Leads, Body 5x4.1mm, Pitch 1.27mm, IPC Low Density)
pins: 1 S "source", 2 S "source", 3 S "source", 4 G "gate", 5 D "mounting base; connected to drain"
text: 1, 2, 3

## PSMN9R5-100BS,118
designator Q?
N-Channel Standard Level MOSFET, 100 V, 89 A, 3-Pin SOT404, Tape and Reel; Manufacturer: NXP Semiconductors; PartNumber: PSMN9R5-100BS,118; Channel Type: N; Ciss [typ] (pF): 4454; Coss [typ] (pF): 302; ID [max] (A): 89; Packing: Tape & Reel; Qr [typ] (nC): 157; VDS [max] (V): 100; VGSth [typ] (V): 3; DatasheetVersion: Rev. 2; PackageVersion: 13-02-25, 02/2013; PackageReference: SOT404; PackageDescription: 3-Pin Plastic Single-ended Surface Mounted Package, Body 10 x 9.6 mm, Pitch 2.54 mm; Supplier 1: Digi-Key; Supplier Part Number 1: 568-9709-2-ND; Supplier 2: Digi-Key; Supplier Part Number 2: 568-9709-1-ND; Supplier 3: Digi-Key; Supplier Part Number 3: 568-9709-6-ND; Supplier 4: Mouser; Supplier Part Number 4: 771-PSMN9R5-100BS118; Mounting Technology: Surface Mount; ComponentLink1Description: Manufacturer URL; ComponentLink1URL: http://www.nxp.com/; ComponentLink2Description: Datasheet; ComponentLink2URL: http://www.nxp.com/documents/data_sheet/PSMN9R5-100BS.pdf; ComponentLink3Description: Package Specification; ComponentLink3URL: http://www.nxp.com/documents/outline_drawing/sot404_po.pdf
footprint NXP-SOT404_N (DPAK, 3-Leads, Body 10.3x9.8mm, Pitch 2.54mm, IPC Medium Density)
footprint NXP-SOT404_L (DPAK, 3-Leads, Body 10.3x9.8mm, Pitch 2.54mm, IPC High Density)
footprint NXP-SOT404_M (DPAK, 3-Leads, Body 10.3x9.8mm, Pitch 2.54mm, IPC Low Density)
pins: 1 G "gate", 3 S "source", 4 D "mounting base; connected to drain"

## PSMN9R5-100PS,127
designator Q?
N-Channel Standard Level MOSFET, 100 V, 89 A, 3-Pin SOT78, Tube; Manufacturer: NXP Semiconductors; PartNumber: PSMN9R5-100PS,127; Channel Type: N; Ciss [typ] (pF): 4454; Coss [typ] (pF): 302; ID [max] (A): 89; Qr [typ] (nC): 157; VDS [max] (V): 100; VGSth [typ] (V): 3; PackageVersion: 08-06-13, 06/2008; PackageReference: SOT78; PackageDescription: 3-Pin Flange Mount, Vertical Straight Lead, Body 10 x 4.4 mm, Pitch 2.54 mm; Supplier 1: Digi-Key; Supplier Part Number 1: 568-5781-5-ND; Supplier 2: Mouser; Supplier Part Number 2: 771-PSMN9R5-100PS127; Packing: Tube; Mounting Technology: Through Hole; Code_JEITA: SC-46; Code_JEDEC: 3-lead TO-220AB; ComponentLink1Description: Manufacturer URL; ComponentLink1URL: http://www.nxp.com/; ComponentLink2Description: Datasheet; ComponentLink2URL: http://www.nxp.com/documents/data_sheet/PSMN9R5-100PS.pdf; ComponentLink3Description: Package Specification; ComponentLink3URL: http://www.nxp.com/documents/outline_drawing/sot078_po.pdf
footprint NXP-SOT78 (FM, 3-Leads, Body 10.3x4.7mm, Pitch 2.54mm)
pins: 1 G "gate", 2 D "drain", 3 S "source"

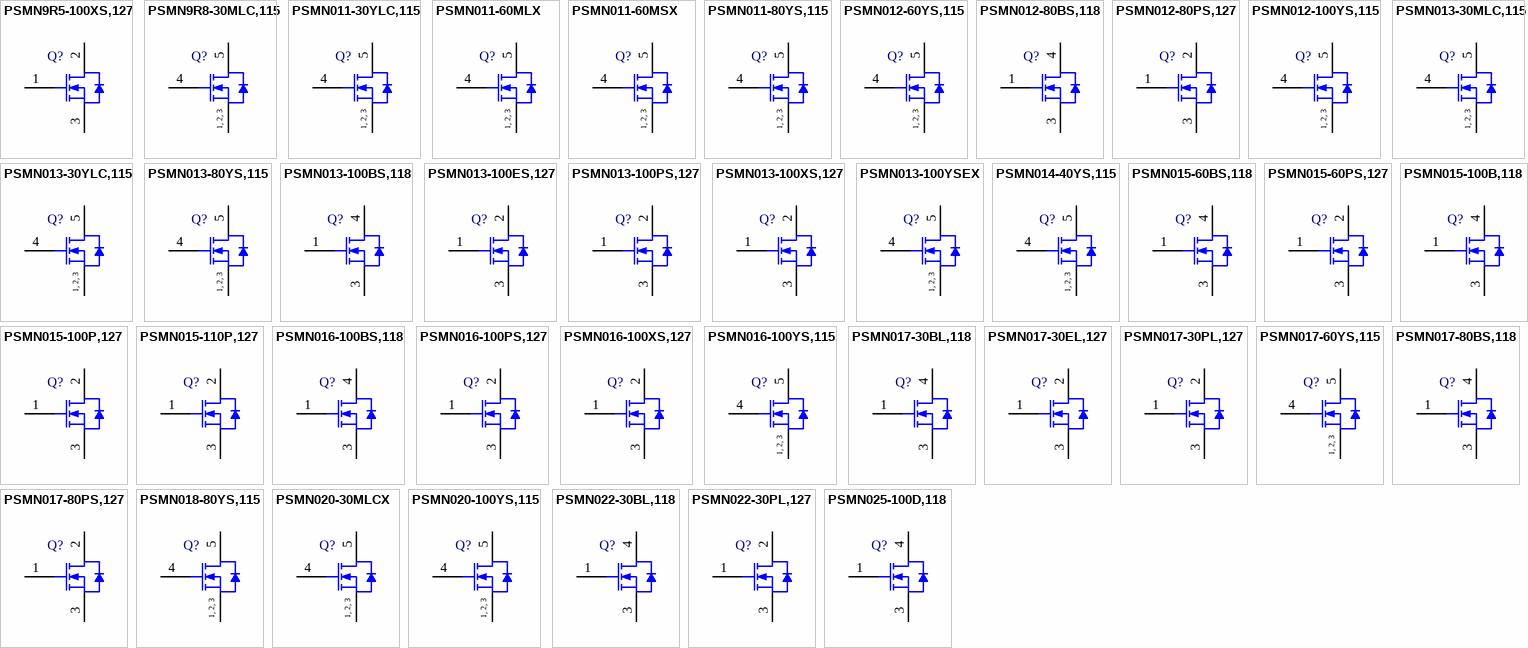
[diagram p11: symbols PSMN9R5-100XS,127 to PSMN025-100D,118]

## PSMN9R5-100XS,127
designator Q?
N-Channel Standard Level MOSFET, 100 V, 44.2 A, 3-Pin SOT186A, Rail; Manufacturer: NXP Semiconductors; PartNumber: PSMN9R5-100XS,127; Channel Type: N; Ciss [typ] (pF): 4454; Coss [typ] (pF): 302; ID [max] (A): 44.2; Qr [typ] (nC): 157; VDS [max] (V): 100; VGSth [typ] (V): 3; DatasheetVersion: Rev. 3; PackageVersion: 06-02-14, 02/2006; PackageReference: SOT186A; PackageDescription: 3-Pin Flange Mount, Vertical Straight Lead, Body 10 x 4.3 mm, Pitch 2.54 mm; Supplier 1: Digi-Key; Supplier Part Number 1: 568-9498-5-ND; Supplier 2: Mouser; Supplier Part Number 2: 771-PSMN9R5-100XS127; Packing: Rail; Mounting Technology: Through Hole; Code_JEDEC: 3-lead TO-220F; ComponentLink1Description: Manufacturer URL; ComponentLink1URL: http://www.nxp.com/; ComponentLink2Description: Datasheet; ComponentLink2URL: http://www.nxp.com/documents/data_sheet/PSMN9R5-100XS.pdf; ComponentLink3Description: Package Specification; ComponentLink3URL: http://www.nxp.com/documents/outline_drawing/sot186a_po.pdf
footprint NXP-SOT186A (FM, 3-Leads, Body 10.3x4.6mm, Pitch 2.54mm)
pins: 1 G "gate", 2 D "drain", 3 S "source"

## PSMN9R8-30MLC,115
designator Q?
N-Channel Logic Level MOSFET Using NextPower Technology, 30 V, 50 A, 5-Pin SOT1210, Reel; Manufacturer: NXP Semiconductors; PartNumber: PSMN9R8-30MLC,115; Channel Type: N; Ciss [typ] (pF): 690; Coss [typ] (pF): 170; ID [max] (A): 50; Qr [typ] (nC): 5.3; VDS [max] (V): 30; VGSth [typ] (V): 1.64; DatasheetVersion: Rev. 3; PackageVersion: 14-04-25, 04/2014; PackageReference: SOT1210; PackageDescription: 8-Pin Plastic Single-ended Surface Mounted Package, Body 3.3 x 2.6 mm, Pitch 0.65 mm; Supplier 1: Digi-Key; Supplier Part Number 1: 568-9579-2-ND; Supplier 2: Digi-Key; Supplier Part Number 2: 568-9579-1-ND; Supplier 3: Digi-Key; Supplier Part Number 3: 568-9579-6-ND; Supplier 4: Mouser; Supplier Part Number 4: 771-PSMN9R8-30MLC115; Packing: Reel; Mounting Technology: Surface Mount; ComponentLink1Description: Manufacturer URL; ComponentLink1URL: http://www.nxp.com/; ComponentLink2Description: Datasheet; ComponentLink2URL: http://www.nxp.com/documents/data_sheet/PSMN9R8-30MLC.pdf; ComponentLink3Description: Package Specification; ComponentLink3URL: http://www.nxp.com/documents/outline_drawing/sot1210_po.pdf
footprint NXP-SOT1210_N (DPAK, 5-Leads, Body 3.4x2.7mm, Pitch 0.65mm, IPC Medium Density)
footprint NXP-SOT1210_L (DPAK, 5-Leads, Body 3.4x2.7mm, Pitch 0.65mm, IPC High Density)
footprint NXP-SOT1210_M (DPAK, 5-Leads, Body 3.4x2.7mm, Pitch 0.65mm, IPC Low Density)
pins: 1 S "source", 2 S "source", 3 S "source", 4 G "gate", 5 D "mounting base; connected to drain"
text: 1, 2, 3

## PSMN011-30YLC,115
designator Q?
N-Channel Logic Level MOSFET Using NextPower Technology, 30 V, 37 A, 5-Pin SOT669, Tape and Reel; Manufacturer: NXP Semiconductors; PartNumber: PSMN011-30YLC,115; Channel Type: N; Ciss [typ] (pF): 641; Coss [typ] (pF): 146; ID [max] (A): 37; Packing: Tape & Reel; Qr [typ] (nC): 7; VDS [max] (V): 30; VGSth [typ] (V): 1.57; DatasheetVersion: Rev. 3; PackageVersion: 13-02-27, 02/2013; PackageReference: SOT669; PackageDescription: 4-Pin Plastic Single-ended Surface Mounted Package, Body 4.9 x 3.95 mm, Pitch 1.27 mm; Supplier 1: Digi-Key; Supplier Part Number 1: 568-8526-2-ND; Supplier 2: Digi-Key; Supplier Part Number 2: 568-8526-1-ND; Supplier 3: Digi-Key; Supplier Part Number 3: 568-8526-6-ND; Supplier 4: Newark; Supplier Part Number 4: 74T4963; Supplier 5: Mouser; Supplier Part Number 5: 771-PSMN011-30YLC115; Mounting Technology: Surface Mount; Code_JEDEC: MO-235; ComponentLink1Description: Manufacturer URL; ComponentLink1URL: http://www.nxp.com/; ComponentLink2Description: Datasheet; ComponentLink2URL: http://www.nxp.com/documents/data_sheet/PSMN011-30YLC.pdf; ComponentLink3Description: Package Specification; ComponentLink3URL: http://www.nxp.com/documents/outline_drawing/sot669_po.pdf
footprint NXP-SOT669_N (DPAK, 4-Leads, Body 5x4.1mm, Pitch 1.27mm, IPC Medium Density)
footprint NXP-SOT669_L (DPAK, 4-Leads, Body 5x4.1mm, Pitch 1.27mm, IPC High Density)
footprint NXP-SOT669_M (DPAK, 4-Leads, Body 5x4.1mm, Pitch 1.27mm, IPC Low Density)
pins: 1 S "source", 2 S "source", 3 S "source", 4 G "gate", 5 D "mounting base; connected to drain"
text: 1, 2, 3

## PSMN011-60MLX
designator Q?
N-Channel Logic Level MOSFET, 60 V, 61 A, 5-Pin SOT1210, Reel; Manufacturer: NXP Semiconductors; PartNumber: PSMN011-60MLX; Channel Type: N; Ciss [typ] (pF): 2191; Coss [typ] (pF): 199; ID [max] (A): 61; Qr [typ] (nC): 15.7; VDS [max] (V): 60; VGSth [typ] (V): 1.7; PackageVersion: 14-04-25, 04/2014; PackageReference: SOT1210; PackageDescription: 8-Pin Plastic Single-ended Surface Mounted Package, Body 3.3 x 2.6 mm, Pitch 0.65 mm; Supplier 1: Digi-Key; Supplier Part Number 1: 568-10985-2-ND; Supplier 2: Digi-Key; Supplier Part Number 2: 568-10985-1-ND; Supplier 3: Digi-Key; Supplier Part Number 3: 568-10985-6-ND; Supplier 4: Newark; Supplier Part Number 4: 97W2526; Supplier 5: Mouser; Supplier Part Number 5: 771-PSMN01160MLX; Packing: Reel; Mounting Technology: Surface Mount; ComponentLink1Description: Manufacturer URL; ComponentLink1URL: http://www.nxp.com/; ComponentLink2Description: Datasheet; ComponentLink2URL: http://www.nxp.com/documents/data_sheet/PSMN011-60ML.pdf; ComponentLink3Description: Package Specification; ComponentLink3URL: http://www.nxp.com/documents/outline_drawing/sot1210_po.pdf
footprint NXP-SOT1210_N (DPAK, 5-Leads, Body 3.4x2.7mm, Pitch 0.65mm, IPC Medium Density)
footprint NXP-SOT1210_L (DPAK, 5-Leads, Body 3.4x2.7mm, Pitch 0.65mm, IPC High Density)
footprint NXP-SOT1210_M (DPAK, 5-Leads, Body 3.4x2.7mm, Pitch 0.65mm, IPC Low Density)
pins: 1 S "source", 2 S "source", 3 S "source", 4 G "gate", 5 D "mounting base; connected to drain"
text: 1, 2, 3

## PSMN011-60MSX
designator Q?
N-Channel Standard Level MOSFET, 60 V, 61 A, 5-Pin SOT1210, Reel; Manufacturer: NXP Semiconductors; PartNumber: PSMN011-60MSX; Channel Type: N; Ciss [typ] (pF): 1368; Coss [typ] (pF): 191; ID [max] (A): 61; Qr [typ] (nC): 19.2; VDS [max] (V): 60; VGSth [typ] (V): 3; PackageVersion: 14-04-25, 04/2014; PackageReference: SOT1210; PackageDescription: 8-Pin Plastic Single-ended Surface Mounted Package, Body 3.3 x 2.6 mm, Pitch 0.65 mm; Supplier 1: Digi-Key; Supplier Part Number 1: 568-10986-2-ND; Supplier 2: Digi-Key; Supplier Part Number 2: 568-10986-1-ND; Supplier 3: Digi-Key; Supplier Part Number 3: 568-10986-6-ND; Supplier 4: Mouser; Supplier Part Number 4: 771-PSMN01160MSX; Packing: Reel; Mounting Technology: Surface Mount; ComponentLink1Description: Manufacturer URL; ComponentLink1URL: http://www.nxp.com/; ComponentLink2Description: Datasheet; ComponentLink2URL: http://www.nxp.com/documents/data_sheet/PSMN011-60MS.pdf; ComponentLink3Description: Package Specification; ComponentLink3URL: http://www.nxp.com/documents/outline_drawing/sot1210_po.pdf
footprint NXP-SOT1210_N (DPAK, 5-Leads, Body 3.4x2.7mm, Pitch 0.65mm, IPC Medium Density)
footprint NXP-SOT1210_L (DPAK, 5-Leads, Body 3.4x2.7mm, Pitch 0.65mm, IPC High Density)
footprint NXP-SOT1210_M (DPAK, 5-Leads, Body 3.4x2.7mm, Pitch 0.65mm, IPC Low Density)
pins: 1 S "source", 2 S "source", 3 S "source", 4 G "gate", 5 D "mounting base; connected to drain"
text: 1, 2, 3

## PSMN011-80YS,115
designator Q?
N-Channel Standard Level MOSFET, 80 V, 67 A, 5-Pin SOT669, Tape and Reel; Manufacturer: NXP Semiconductors; PartNumber: PSMN011-80YS,115; Channel Type: N; Ciss [typ] (pF): 2800; Coss [typ] (pF): 270; ID [max] (A): 67; Packing: Tape & Reel; Qr [typ] (nC): 98; VDS [max] (V): 80; VGSth [typ] (V): 3; DatasheetVersion: Rev. 02; PackageVersion: 13-02-27, 02/2013; PackageReference: SOT669; PackageDescription: 4-Pin Plastic Single-ended Surface Mounted Package, Body 4.9 x 3.95 mm, Pitch 1.27 mm; Supplier 1: Digi-Key; Supplier Part Number 1: 568-5577-2-ND; Supplier 2: Digi-Key; Supplier Part Number 2: 568-5577-1-ND; Supplier 3: Digi-Key; Supplier Part Number 3: 568-5577-6-ND; Supplier 4: Newark; Supplier Part Number 4: 99R2963; Supplier 5: Mouser; Supplier Part Number 5: 771-PSMN01180YS115; Mounting Technology: Surface Mount; Code_JEDEC: MO-235; ComponentLink1Description: Manufacturer URL; ComponentLink1URL: http://www.nxp.com/; ComponentLink2Description: Datasheet; ComponentLink2URL: http://www.nxp.com/documents/data_sheet/PSMN011-80YS.pdf; ComponentLink3Description: Package Specification; ComponentLink3URL: http://www.nxp.com/documents/outline_drawing/sot669_po.pdf
footprint NXP-SOT669_N (DPAK, 4-Leads, Body 5x4.1mm, Pitch 1.27mm, IPC Medium Density)
footprint NXP-SOT669_L (DPAK, 4-Leads, Body 5x4.1mm, Pitch 1.27mm, IPC High Density)
footprint NXP-SOT669_M (DPAK, 4-Leads, Body 5x4.1mm, Pitch 1.27mm, IPC Low Density)
pins: 1 S "source", 2 S "source", 3 S "source", 4 G "gate", 5 D "mounting base; connected to drain"
text: 1, 2, 3